# Altium footprint library 3U16AD_PCB_1214D_Allegro.PcbLib: 54 footprints (part 2 of 4)
Each footprint in its own frame and in the unit in brackets; x right, y up, seen from the top. Pads: shape width x height; smd on the part's side, far side on the other; paste and mask are expansions set on the pad; w line width, h text height; cw(c..) or ccw(c..) is an arc to the next point about the centre after c.
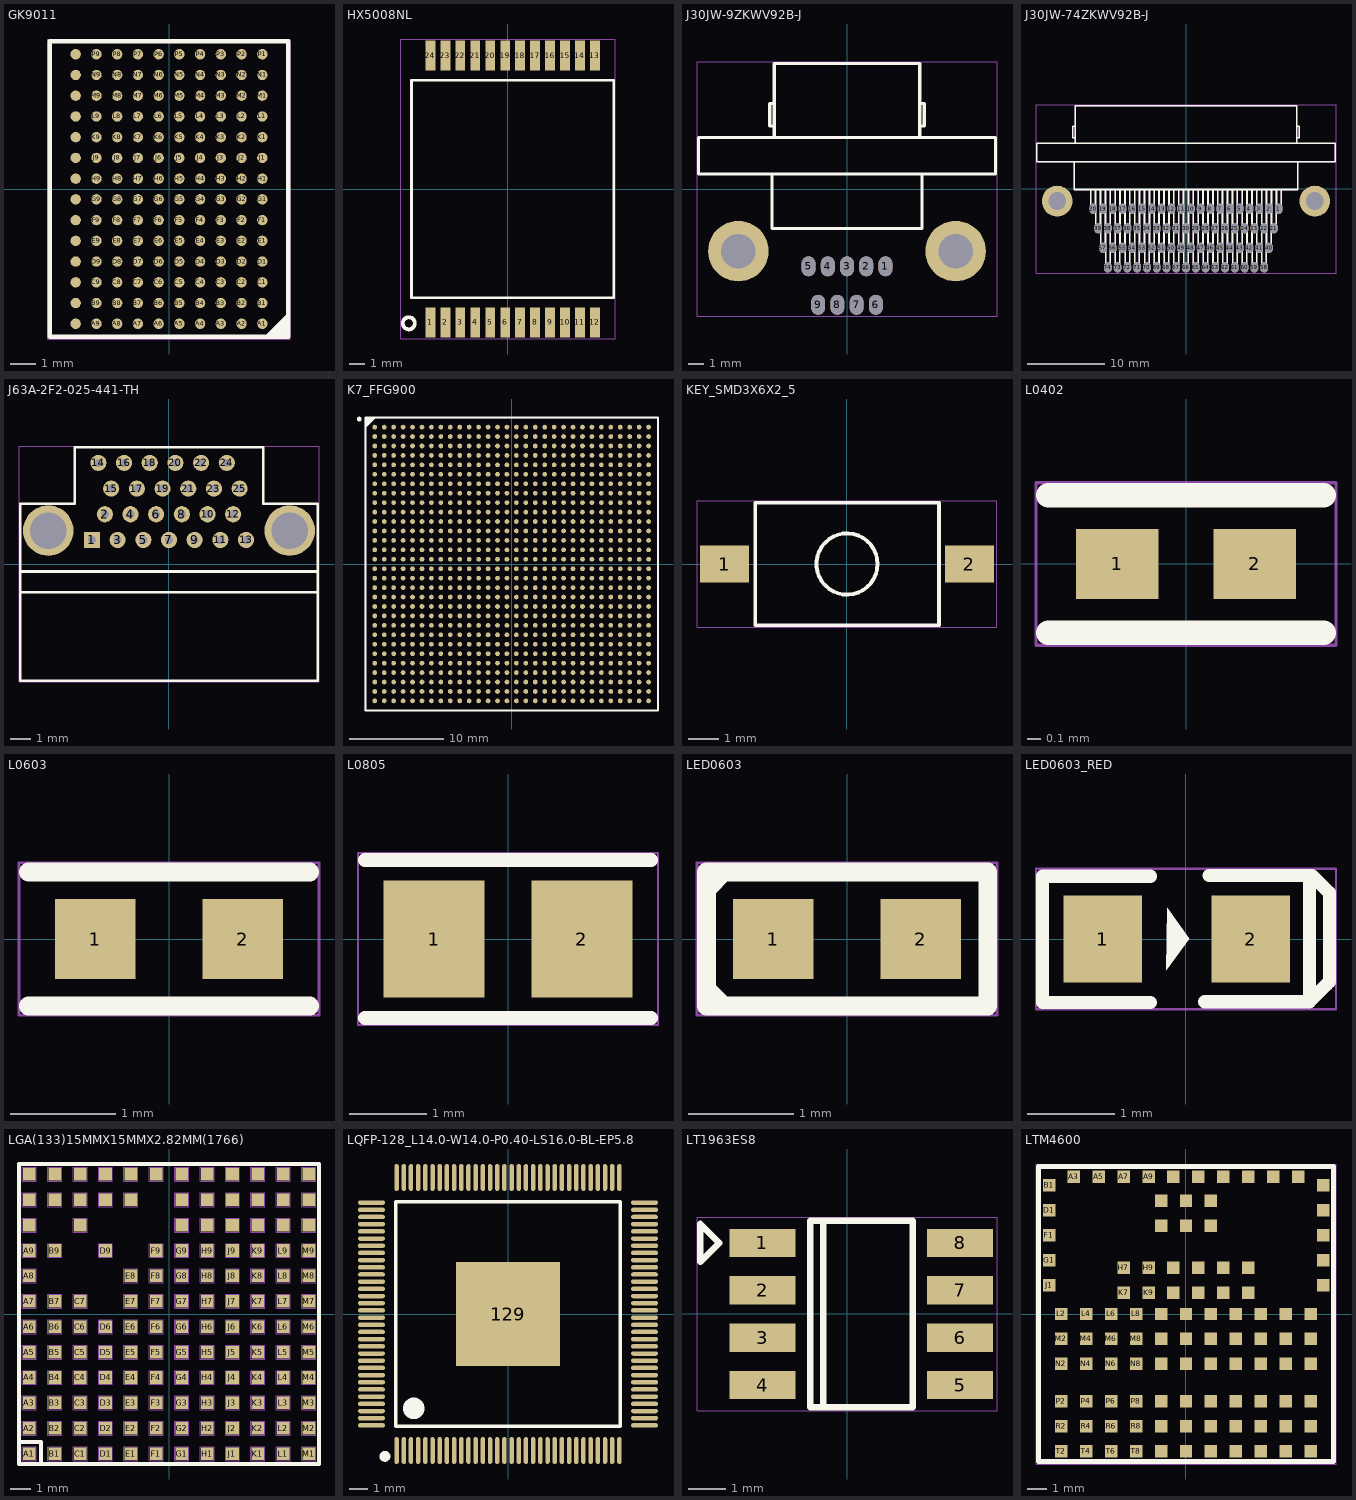
[diagram p1: the footprints below, top view; thin cyan lines are the x and y axes]

## GK9011 [mm] "GK9011"
pads (140):
  round 0.4 smd: A1(3.6,-5.2) A2(2.8,-5.2) A3(2,-5.2) A4(1.2,-5.2) A5(0.4,-5.2) A6(-0.4,-5.2) A7(-1.2,-5.2) A8(-2,-5.2) A9(-2.8,-5.2) A10(-3.6,-5.2) B1(3.6,-4.4) B2(2.8,-4.4) B3(2,-4.4) B4(1.2,-4.4) B5(0.4,-4.4) B6(-0.4,-4.4) B7(-1.2,-4.4) B8(-2,-4.4) B9(-2.8,-4.4) B10(-3.6,-4.4) C1(3.6,-3.6) C2(2.8,-3.6) C3(2,-3.6) C4(1.2,-3.6) C5(0.4,-3.6) C6(-0.4,-3.6) C7(-1.2,-3.6) C8(-2,-3.6) C9(-2.8,-3.6) C10(-3.6,-3.6) D1(3.6,-2.8) D2(2.8,-2.8) D3(2,-2.8) D4(1.2,-2.8) D5(0.4,-2.8) D6(-0.4,-2.8) D7(-1.2,-2.8) D8(-2,-2.8) D9(-2.8,-2.8) D10(-3.6,-2.8) E1(3.6,-2) E2(2.8,-2) E3(2,-2) E4(1.2,-2) E5(0.4,-2) E6(-0.4,-2) E7(-1.2,-2) E8(-2,-2) E9(-2.8,-2) E10(-3.6,-2) F1(3.6,-1.2) F2(2.8,-1.2) F3(2,-1.2) F4(1.2,-1.2) F5(0.4,-1.2) F6(-0.4,-1.2) F7(-1.2,-1.2) F8(-2,-1.2) F9(-2.8,-1.2) F10(-3.6,-1.2) G1(3.6,-0.4) G2(2.8,-0.4) G3(2,-0.4) G4(1.2,-0.4) G5(0.4,-0.4) G6(-0.4,-0.4) G7(-1.2,-0.4) G8(-2,-0.4) G9(-2.8,-0.4) G10(-3.6,-0.4) H1(3.6,0.4) H2(2.8,0.4) H3(2,0.4) H4(1.2,0.4) H5(0.4,0.4) H6(-0.4,0.4) H7(-1.2,0.4) H8(-2,0.4) H9(-2.8,0.4) H10(-3.6,0.4) J1(3.6,1.2) J2(2.8,1.2) J3(2,1.2) J4(1.2,1.2) J5(0.4,1.2) J6(-0.4,1.2) J7(-1.2,1.2) J8(-2,1.2) J9(-2.8,1.2) J10(-3.6,1.2) K1(3.6,2) K2(2.8,2) K3(2,2) K4(1.2,2) K5(0.4,2) K6(-0.4,2) K7(-1.2,2) K8(-2,2) K9(-2.8,2) K10(-3.6,2) L1(3.6,2.8) L2(2.8,2.8) L3(2,2.8) L4(1.2,2.8) L5(0.4,2.8) L6(-0.4,2.8) L7(-1.2,2.8) L8(-2,2.8) L9(-2.8,2.8) L10(-3.6,2.8) M1(3.6,3.6) M2(2.8,3.6) M3(2,3.6) M4(1.2,3.6) M5(0.4,3.6) M6(-0.4,3.6) M7(-1.2,3.6) M8(-2,3.6) M9(-2.8,3.6) M10(-3.6,3.6) N1(3.6,4.4) N2(2.8,4.4) N3(2,4.4) N4(1.2,4.4) N5(0.4,4.4) N6(-0.4,4.4) N7(-1.2,4.4) N8(-2,4.4) N9(-2.8,4.4) N10(-3.6,4.4) P1(3.6,5.2) P2(2.8,5.2) P3(2,5.2) P4(1.2,5.2) P5(0.4,5.2) P6(-0.4,5.2) P7(-1.2,5.2) P8(-2,5.2) P9(-2.8,5.2) P10(-3.6,5.2)
Top Overlay:
  dashed: 3.682,-5.7 4.6,-4.782 4.6,-5.7
  lines w0.178: -4.6,-5.7 4.6,-5.7 4.6,5.7 -4.6,5.7 -4.6,-5.7
Mechanical 7:
  lines w0.025: -4.689,-5.789 4.689,-5.789 4.689,5.789 -4.689,5.789 -4.689,-5.789
Mechanical 16:
  text ".Designator" at 0,0 h0.76

## HX5008NL [mm] "HX5008NL"
pads (24):
  rect 0.65x2 smd: 1(-5.136,-8.828) 2(-4.146,-8.828) 3(-3.156,-8.828) 4(-2.166,-8.828) 5(-1.176,-8.828) 6(-0.186,-8.828) 7(0.804,-8.828) 8(1.794,-8.828) 9(2.784,-8.828) 10(3.774,-8.828) 11(4.764,-8.828) 12(5.754,-8.828) 13(5.754,8.828) 14(4.764,8.828) 15(3.774,8.828) 16(2.784,8.828) 17(1.794,8.828) 18(0.804,8.828) 19(-0.186,8.828) 20(-1.176,8.828) 21(-2.166,8.828) 22(-3.156,8.828) 23(-4.146,8.828) 24(-5.136,8.828)
Top Overlay:
  circle w0.254: c-6.569,-8.89 r0.402
  lines w0.178: -6.391,-7.192 7.009,-7.192 7.009,7.192 -6.391,7.192 -6.391,-7.192
  text ".Designator" at -5.133,-10.965 h0.76
Mechanical 7:
  lines w0.025: -7.098,-9.929 7.098,-9.929 7.098,9.929 -7.098,9.929 -7.098,-9.929

## J30JW-9ZKWV92B-J [mm] "J30JW-9ZKWV92B-J"
pads (11):
  oval 0.9x1.3 hole 0.9 slot 1.3 at 90 deg: 1(2.54,-5.105) 2(1.27,-5.105) 3(0,-5.105) 4(-1.27,-5.105) 5(-2.54,-5.105) 6(1.905,-7.645) 7(0.635,-7.645) 8(-0.635,-7.645) 9(-1.905,-7.645)
  round 4 hole 2.3: ""(-7.175,-4.105) ""(7.175,-4.105)
Top Overlay:
  lines w0.203: -4.95,0.995 -4.95,-2.605 4.95,-2.605 4.95,0.995 ; -4.8,3.395 -4.8,8.295 -4.465,8.295 -2.675,8.295 -0.51,8.295 ; -4.8,4.145 -5.1,4.145 -5.1,4.945 -5.1,5.645 -4.8,5.645 ; -0.635,8.295 2.675,8.295 4.465,8.295 4.8,8.295 4.8,3.395 ; 4.8,4.145 5.1,4.145 5.1,4.945 5.1,5.645 4.8,5.645 ; -9.8,0.995 -8.3,0.995 9.8,0.995 9.8,3.395 8.3,3.395 -9.8,3.395 -9.8,0.995
  text ".Designator" at -0.392,-9.835 h0.76
Mechanical 7:
  lines w0.025: -9.902,-8.396 -9.902,8.397 9.901,8.397 9.901,-8.396 -9.902,-8.396
Mechanical 16:
  lines w0.127: -8.3,0.995 -9.8,0.995 -9.8,3.395 -8.3,3.395 ; -4.95,-2.605 -4.95,0.995 ; -4.8,3.395 -4.8,8.295 -4.465,8.295 -2.675,8.295 -0.51,8.295 ; -4.8,4.145 -5.1,4.145 -5.1,4.945 -5.1,5.645 -4.8,5.645 ; 0.51,8.295 2.675,8.295 4.465,8.295 4.8,8.295 4.8,3.395 ; 4.8,4.145 5.1,4.145 5.1,4.945 5.1,5.645 4.8,5.645 ; 4.95,-2.605 4.95,0.995 ; 8.3,0.995 9.8,0.995 9.8,3.395 8.3,3.395

## J30JW-74ZKWV92B-J [mm] "J30JW-74ZKWV92B-J"
pads (76):
  oval 0.95x1.3 hole 0.95 slot 1.3 at 90 deg: 1(12.065,-2.565) 2(10.795,-2.565) 3(9.525,-2.565) 4(8.255,-2.565) 5(6.985,-2.565) 6(5.715,-2.565) 7(4.445,-2.565) 8(3.175,-2.565) 9(1.905,-2.565) 10(0.635,-2.565) 11(-0.635,-2.565) 12(-1.905,-2.565) 13(-3.175,-2.565) 14(-4.445,-2.565) 15(-5.715,-2.565) 16(-6.985,-2.565) 17(-8.255,-2.565) 18(-9.525,-2.565) 19(-10.795,-2.565) 20(-12.065,-2.565) 21(11.43,-5.105) 22(10.16,-5.105) 23(8.89,-5.105) 24(7.62,-5.105) 25(6.35,-5.105) 26(5.08,-5.105) 27(3.81,-5.105) 28(2.54,-5.105) 29(1.27,-5.105) 30(0,-5.105) 31(-1.27,-5.105) 32(-2.54,-5.105) 33(-3.81,-5.105) 34(-5.08,-5.105) 35(-6.35,-5.105) 36(-7.62,-5.105) 37(-8.89,-5.105) 38(-10.16,-5.105) 39(-11.43,-5.105) 40(10.795,-7.645) 41(9.525,-7.645) 42(8.255,-7.645) 43(6.985,-7.645) 44(5.715,-7.645) 45(4.445,-7.645) 46(3.175,-7.645) 47(1.905,-7.645) 48(0.635,-7.645) 49(-0.635,-7.645) 50(-1.905,-7.645) 51(-3.175,-7.645) 52(-4.445,-7.645) 53(-5.715,-7.645) 54(-6.985,-7.645) 55(-8.255,-7.645) 56(-9.525,-7.645) 57(-10.795,-7.645) 58(10.16,-10.185) 59(8.89,-10.185) 60(7.62,-10.185) 61(6.35,-10.185) 62(5.08,-10.185) 63(3.81,-10.185) 64(2.54,-10.185) 65(1.27,-10.185) 66(0,-10.185) 67(-1.27,-10.185) 68(-2.54,-10.185) 69(-3.81,-10.185) 70(-5.08,-10.185) 71(-6.35,-10.185) 72(-7.62,-10.185) 73(-8.89,-10.185) 74(-10.16,-10.185)
  round 4 hole 2.3: ""(-16.75,-1.565) ""(16.75,-1.565)
Top Overlay:
  drawing of 232 lines, arcs and shapes, not listed
Mechanical 7:
  lines w0.025: -19.502,-10.937 -19.502,10.936 19.502,10.936 19.502,-10.937 -19.502,-10.937
Mechanical 16:
  drawing of 232 lines, arcs and shapes, not listed
  text ".Designator" at 0,-5.875 h0.76

## J63A-2F2-025-441-TH [mil] "J63A-2F2-025-441-TH"
pads (27):
  rect 31.5x31.5 hole 15.75: 1(-150,46.86)
  round 31.5 hole 15.75: 2(-125,96.86) 3(-100,46.86) 4(-75,96.86) 5(-50,46.86) 6(-25,96.86) 7(0,46.86) 8(25,96.86) 9(50,46.86) 10(75,96.86) 11(100,46.86) 12(125,96.86) 13(150,46.86) 14(-137.5,196.86) 15(-112.5,146.86) 16(-87.5,196.86) 17(-62.5,146.86) 18(-37.5,196.86) 19(-12.5,146.86) 20(12.5,196.86) 21(37.5,146.86) 22(62.5,196.86) 23(87.5,146.86) 24(112.5,196.86) 25(137.5,146.86)
  round 98.43 hole 70.87: ""(-235.04,64.97) ""(235.04,64.97)
Top Overlay:
  lines w5: -289.56,-55.11 289.57,-55.11 ; -289.56,-14.66 289.57,-14.66 ; -289.56,-227.16 -289.56,116.93 -183.66,116.93 -183.66,227.17 183.67,227.17 183.67,116.93 289.57,116.93 289.57,-227.16 -289.56,-227.16
  text ".Designator" at -224,133.86 h30
Mechanical 7:
  lines w1: -292.06,-229.66 -292.06,229.67 292.07,229.67 292.07,-229.66 -292.06,-229.66

## K7_FFG900 [mil] "K7_FFG900"
pads (900):
  round 19.68 smd: A1(-570.86,570.87) A2(-531.49,570.87) A3(-492.12,570.87) A4(-452.75,570.87) A5(-413.38,570.87) A6(-374.01,570.87) A7(-334.64,570.87) A8(-295.27,570.87) A9(-255.9,570.87) A10(-216.53,570.87) A11(-177.16,570.87) A12(-137.79,570.87) A13(-98.42,570.87) A14(-59.05,570.87) A15(-19.68,570.87) A16(19.69,570.87) A17(59.06,570.87) A18(98.43,570.87) A19(137.8,570.87) A20(177.17,570.87) A21(216.54,570.87) A22(255.91,570.87) A23(295.28,570.87) A24(334.65,570.87) A25(374.02,570.87) A26(413.39,570.87) A27(452.76,570.87) A28(492.13,570.87) A29(531.5,570.87) A30(570.87,570.87) AA1(-570.86,-216.53) AA2(-531.49,-216.53) AA3(-492.12,-216.53) AA4(-452.75,-216.53) AA5(-413.38,-216.53) AA6(-374.01,-216.53) AA7(-334.64,-216.53) AA8(-295.27,-216.53) AA9(-255.9,-216.53) AA10(-216.53,-216.53) AA11(-177.16,-216.53) AA12(-137.79,-216.53) AA13(-98.42,-216.53) AA14(-59.05,-216.53) AA15(-19.68,-216.53) AA16(19.69,-216.53) AA17(59.06,-216.53) AA18(98.43,-216.53) AA19(137.8,-216.53) AA20(177.17,-216.53) AA21(216.54,-216.53) AA22(255.91,-216.53) AA23(295.28,-216.53) AA24(334.65,-216.53) AA25(374.02,-216.53) AA26(413.39,-216.53) AA27(452.76,-216.53) AA28(492.13,-216.53) AA29(531.5,-216.53) AA30(570.87,-216.53) AB1(-570.86,-255.9) AB2(-531.49,-255.9) AB3(-492.12,-255.9) AB4(-452.75,-255.9) AB5(-413.38,-255.9) AB6(-374.01,-255.9) AB7(-334.64,-255.9) AB8(-295.27,-255.9) AB9(-255.9,-255.9) AB10(-216.53,-255.9) AB11(-177.16,-255.9) AB12(-137.79,-255.9) AB13(-98.42,-255.9) AB14(-59.05,-255.9) AB15(-19.68,-255.9) AB16(19.69,-255.9) AB17(59.06,-255.9) AB18(98.43,-255.9) AB19(137.8,-255.9) AB20(177.17,-255.9) AB21(216.54,-255.9) AB22(255.91,-255.9) AB23(295.28,-255.9) AB24(334.65,-255.9) AB25(374.02,-255.9) AB26(413.39,-255.9) AB27(452.76,-255.9) AB28(492.13,-255.9) AB29(531.5,-255.9) AB30(570.87,-255.9) AC1(-570.86,-295.27) AC2(-531.49,-295.27) AC3(-492.12,-295.27) AC4(-452.75,-295.27) AC5(-413.38,-295.27) AC6(-374.01,-295.27) AC7(-334.64,-295.27) AC8(-295.27,-295.27) AC9(-255.9,-295.27) AC10(-216.53,-295.27) AC11(-177.16,-295.27) AC12(-137.79,-295.27) AC13(-98.42,-295.27) AC14(-59.05,-295.27) AC15(-19.68,-295.27) AC16(19.69,-295.27) AC17(59.06,-295.27) AC18(98.43,-295.27) AC19(137.8,-295.27) AC20(177.17,-295.27) AC21(216.54,-295.27) AC22(255.91,-295.27) AC23(295.28,-295.27) AC24(334.65,-295.27) AC25(374.02,-295.27) AC26(413.39,-295.27) AC27(452.76,-295.27) AC28(492.13,-295.27) AC29(531.5,-295.27) AC30(570.87,-295.27) AD1(-570.86,-334.64) AD2(-531.49,-334.64) AD3(-492.12,-334.64) AD4(-452.75,-334.64) AD5(-413.38,-334.64) AD6(-374.01,-334.64) AD7(-334.64,-334.64) AD8(-295.27,-334.64) AD9(-255.9,-334.64) AD10(-216.53,-334.64) AD11(-177.16,-334.64) AD12(-137.79,-334.64) AD13(-98.42,-334.64) AD14(-59.05,-334.64) AD15(-19.68,-334.64) AD16(19.69,-334.64) AD17(59.06,-334.64) AD18(98.43,-334.64) AD19(137.8,-334.64) AD20(177.17,-334.64) AD21(216.54,-334.64) AD22(255.91,-334.64) AD23(295.28,-334.64) AD24(334.65,-334.64) AD25(374.02,-334.64) AD26(413.39,-334.64) AD27(452.76,-334.64) AD28(492.13,-334.64) AD29(531.5,-334.64) AD30(570.87,-334.64) AE1(-570.86,-374.01) AE2(-531.49,-374.01) AE3(-492.12,-374.01) AE4(-452.75,-374.01) AE5(-413.38,-374.01) AE6(-374.01,-374.01) AE7(-334.64,-374.01) AE8(-295.27,-374.01) AE9(-255.9,-374.01) AE10(-216.53,-374.01) AE11(-177.16,-374.01) AE12(-137.79,-374.01) AE13(-98.42,-374.01) AE14(-59.05,-374.01) AE15(-19.68,-374.01) AE16(19.69,-374.01) AE17(59.06,-374.01) AE18(98.43,-374.01) AE19(137.8,-374.01) AE20(177.17,-374.01) AE21(216.54,-374.01) AE22(255.91,-374.01) AE23(295.28,-374.01) AE24(334.65,-374.01) AE25(374.02,-374.01) AE26(413.39,-374.01) AE27(452.76,-374.01) AE28(492.13,-374.01) AE29(531.5,-374.01) AE30(570.87,-374.01) AF1(-570.86,-413.38) AF2(-531.49,-413.38) AF3(-492.12,-413.38) AF4(-452.75,-413.38) AF5(-413.38,-413.38) AF6(-374.01,-413.38) AF7(-334.64,-413.38) AF8(-295.27,-413.38) AF9(-255.9,-413.38) AF10(-216.53,-413.38) AF11(-177.16,-413.38) AF12(-137.79,-413.38) AF13(-98.42,-413.38) AF14(-59.05,-413.38) AF15(-19.68,-413.38) AF16(19.69,-413.38) AF17(59.06,-413.38) AF18(98.43,-413.38) AF19(137.8,-413.38) AF20(177.17,-413.38) AF21(216.54,-413.38) AF22(255.91,-413.38) AF23(295.28,-413.38) AF24(334.65,-413.38) AF25(374.02,-413.38) AF26(413.39,-413.38) AF27(452.76,-413.38) AF28(492.13,-413.38) AF29(531.5,-413.38) AF30(570.87,-413.38) AG1(-570.86,-452.75) AG2(-531.49,-452.75) AG3(-492.12,-452.75) AG4(-452.75,-452.75) AG5(-413.38,-452.75) AG6(-374.01,-452.75) AG7(-334.64,-452.75) AG8(-295.27,-452.75) AG9(-255.9,-452.75) AG10(-216.53,-452.75) AG11(-177.16,-452.75) AG12(-137.79,-452.75) AG13(-98.42,-452.75) AG14(-59.05,-452.75) AG15(-19.68,-452.75) AG16(19.69,-452.75) AG17(59.06,-452.75) AG18(98.43,-452.75) AG19(137.8,-452.75) AG20(177.17,-452.75) AG21(216.54,-452.75) AG22(255.91,-452.75) AG23(295.28,-452.75) AG24(334.65,-452.75) AG25(374.02,-452.75) AG26(413.39,-452.75) AG27(452.76,-452.75) AG28(492.13,-452.75) AG29(531.5,-452.75) AG30(570.87,-452.75) AH1(-570.86,-492.12) AH2(-531.49,-492.12) AH3(-492.12,-492.12) AH4(-452.75,-492.12) AH5(-413.38,-492.12) AH6(-374.01,-492.12) AH7(-334.64,-492.12) AH8(-295.27,-492.12) AH9(-255.9,-492.12) AH10(-216.53,-492.12) AH11(-177.16,-492.12) AH12(-137.79,-492.12) AH13(-98.42,-492.12) AH14(-59.05,-492.12) AH15(-19.68,-492.12) AH16(19.69,-492.12) AH17(59.06,-492.12) AH18(98.43,-492.12) AH19(137.8,-492.12) AH20(177.17,-492.12) AH21(216.54,-492.12) AH22(255.91,-492.12) AH23(295.28,-492.12) AH24(334.65,-492.12) AH25(374.02,-492.12) AH26(413.39,-492.12) AH27(452.76,-492.12) AH28(492.13,-492.12) AH29(531.5,-492.12) AH30(570.87,-492.12) AJ1(-570.86,-531.49) AJ2(-531.49,-531.49) AJ3(-492.12,-531.49) AJ4(-452.75,-531.49) AJ5(-413.38,-531.49) AJ6(-374.01,-531.49) AJ7(-334.64,-531.49) AJ8(-295.27,-531.49) AJ9(-255.9,-531.49) AJ10(-216.53,-531.49) AJ11(-177.16,-531.49) AJ12(-137.79,-531.49) AJ13(-98.42,-531.49) AJ14(-59.05,-531.49) AJ15(-19.68,-531.49) AJ16(19.69,-531.49) AJ17(59.06,-531.49) AJ18(98.43,-531.49) AJ19(137.8,-531.49) AJ20(177.17,-531.49) AJ21(216.54,-531.49) AJ22(255.91,-531.49) AJ23(295.28,-531.49) AJ24(334.65,-531.49) AJ25(374.02,-531.49) AJ26(413.39,-531.49) AJ27(452.76,-531.49) AJ28(492.13,-531.49) AJ29(531.5,-531.49) AJ30(570.87,-531.49) AK1(-570.86,-570.86) AK2(-531.49,-570.86) AK3(-492.12,-570.86) AK4(-452.75,-570.86) AK5(-413.38,-570.86) AK6(-374.01,-570.86) AK7(-334.64,-570.86) AK8(-295.27,-570.86) AK9(-255.9,-570.86) AK10(-216.53,-570.86) AK11(-177.16,-570.86) AK12(-137.79,-570.86) AK13(-98.42,-570.86) AK14(-59.05,-570.86) AK15(-19.68,-570.86) AK16(19.69,-570.86) AK17(59.06,-570.86) AK18(98.43,-570.86) AK19(137.8,-570.86) AK20(177.17,-570.86) AK21(216.54,-570.86) AK22(255.91,-570.86) AK23(295.28,-570.86) AK24(334.65,-570.86) AK25(374.02,-570.86) AK26(413.39,-570.86) AK27(452.76,-570.86) AK28(492.13,-570.86) AK29(531.5,-570.86) AK30(570.87,-570.86) B1(-570.86,531.5) B2(-531.49,531.5) B3(-492.12,531.5) B4(-452.75,531.5) B5(-413.38,531.5) B6(-374.01,531.5) B7(-334.64,531.5) B8(-295.27,531.5) B9(-255.9,531.5) B10(-216.53,531.5) B11(-177.16,531.5) B12(-137.79,531.5) B13(-98.42,531.5) B14(-59.05,531.5) B15(-19.68,531.5) B16(19.69,531.5) B17(59.06,531.5) B18(98.43,531.5) B19(137.8,531.5) B20(177.17,531.5) B21(216.54,531.5) B22(255.91,531.5) B23(295.28,531.5) B24(334.65,531.5) B25(374.02,531.5) B26(413.39,531.5) B27(452.76,531.5) B28(492.13,531.5) B29(531.5,531.5) B30(570.87,531.5) C1(-570.86,492.13) C2(-531.49,492.13) C3(-492.12,492.13) C4(-452.75,492.13) C5(-413.38,492.13) C6(-374.01,492.13) C7(-334.64,492.13) C8(-295.27,492.13) C9(-255.9,492.13) C10(-216.53,492.13) C11(-177.16,492.13) C12(-137.79,492.13) C13(-98.42,492.13) C14(-59.05,492.13) C15(-19.68,492.13) C16(19.69,492.13) C17(59.06,492.13) C18(98.43,492.13) C19(137.8,492.13) C20(177.17,492.13) C21(216.54,492.13) C22(255.91,492.13) C23(295.28,492.13) C24(334.65,492.13) C25(374.02,492.13) C26(413.39,492.13) C27(452.76,492.13) C28(492.13,492.13) C29(531.5,492.13) C30(570.87,492.13) D1(-570.86,452.76) D2(-531.49,452.76) D3(-492.12,452.76) D4(-452.75,452.76) D5(-413.38,452.76) D6(-374.01,452.76) D7(-334.64,452.76) D8(-295.27,452.76) D9(-255.9,452.76) D10(-216.53,452.76) D11(-177.16,452.76) D12(-137.79,452.76) D13(-98.42,452.76) D14(-59.05,452.76) D15(-19.68,452.76) D16(19.69,452.76) D17(59.06,452.76) D18(98.43,452.76) D19(137.8,452.76) D20(177.17,452.76) D21(216.54,452.76) D22(255.91,452.76) D23(295.28,452.76) D24(334.65,452.76) D25(374.02,452.76) D26(413.39,452.76) D27(452.76,452.76) D28(492.13,452.76) D29(531.5,452.76) D30(570.87,452.76) E1(-570.86,413.39) E2(-531.49,413.39) E3(-492.12,413.39) E4(-452.75,413.39) E5(-413.38,413.39) E6(-374.01,413.39) E7(-334.64,413.39) E8(-295.27,413.39) E9(-255.9,413.39) E10(-216.53,413.39) E11(-177.16,413.39) E12(-137.79,413.39) E13(-98.42,413.39) E14(-59.05,413.39) E15(-19.68,413.39) E16(19.69,413.39) E17(59.06,413.39) E18(98.43,413.39) E19(137.8,413.39) E20(177.17,413.39) E21(216.54,413.39) E22(255.91,413.39) E23(295.28,413.39) E24(334.65,413.39) E25(374.02,413.39) E26(413.39,413.39) E27(452.76,413.39) E28(492.13,413.39) E29(531.5,413.39) E30(570.87,413.39) F1(-570.86,374.02) F2(-531.49,374.02) F3(-492.12,374.02) F4(-452.75,374.02) F5(-413.38,374.02) F6(-374.01,374.02) F7(-334.64,374.02) F8(-295.27,374.02) F9(-255.9,374.02) F10(-216.53,374.02) F11(-177.16,374.02) F12(-137.79,374.02) F13(-98.42,374.02) F14(-59.05,374.02) F15(-19.68,374.02) F16(19.69,374.02) F17(59.06,374.02) F18(98.43,374.02) F19(137.8,374.02) F20(177.17,374.02) F21(216.54,374.02) F22(255.91,374.02) F23(295.28,374.02) F24(334.65,374.02) F25(374.02,374.02) F26(413.39,374.02) F27(452.76,374.02) F28(492.13,374.02) F29(531.5,374.02) F30(570.87,374.02) G1(-570.86,334.65) G2(-531.49,334.65) G3(-492.12,334.65) G4(-452.75,334.65) G5(-413.38,334.65) G6(-374.01,334.65) G7(-334.64,334.65) G8(-295.27,334.65) G9(-255.9,334.65) G10(-216.53,334.65) G11(-177.16,334.65) G12(-137.79,334.65) G13(-98.42,334.65) G14(-59.05,334.65) G15(-19.68,334.65) G16(19.69,334.65) G17(59.06,334.65) G18(98.43,334.65) G19(137.8,334.65) G20(177.17,334.65) G21(216.54,334.65) G22(255.91,334.65) G23(295.28,334.65) G24(334.65,334.65) G25(374.02,334.65) G26(413.39,334.65) G27(452.76,334.65) G28(492.13,334.65) G29(531.5,334.65) G30(570.87,334.65) H1(-570.86,295.28) H2(-531.49,295.28) H3(-492.12,295.28) H4(-452.75,295.28) H5(-413.38,295.28) H6(-374.01,295.28) H7(-334.64,295.28) H8(-295.27,295.28) H9(-255.9,295.28) H10(-216.53,295.28) H11(-177.16,295.28) H12(-137.79,295.28) H13(-98.42,295.28) H14(-59.05,295.28) H15(-19.68,295.28) H16(19.69,295.28) H17(59.06,295.28) H18(98.43,295.28) H19(137.8,295.28) H20(177.17,295.28) H21(216.54,295.28) H22(255.91,295.28) H23(295.28,295.28) H24(334.65,295.28) H25(374.02,295.28) H26(413.39,295.28) H27(452.76,295.28) H28(492.13,295.28) H29(531.5,295.28) H30(570.87,295.28) J1(-570.86,255.91) J2(-531.49,255.91) J3(-492.12,255.91) J4(-452.75,255.91) J5(-413.38,255.91) J6(-374.01,255.91) J7(-334.64,255.91) J8(-295.27,255.91) J9(-255.9,255.91) J10(-216.53,255.91) J11(-177.16,255.91) J12(-137.79,255.91) J13(-98.42,255.91) J14(-59.05,255.91) J15(-19.68,255.91) J16(19.69,255.91) J17(59.06,255.91) J18(98.43,255.91) J19(137.8,255.91) J20(177.17,255.91) J21(216.54,255.91) J22(255.91,255.91) J23(295.28,255.91) J24(334.65,255.91) J25(374.02,255.91) J26(413.39,255.91) J27(452.76,255.91) J28(492.13,255.91) J29(531.5,255.91) J30(570.87,255.91) K1(-570.86,216.54) K2(-531.49,216.54) K3(-492.12,216.54) K4(-452.75,216.54) K5(-413.38,216.54) K6(-374.01,216.54) K7(-334.64,216.54) K8(-295.27,216.54) K9(-255.9,216.54) K10(-216.53,216.54) K11(-177.16,216.54) K12(-137.79,216.54) K13(-98.42,216.54) K14(-59.05,216.54) K15(-19.68,216.54) K16(19.69,216.54) K17(59.06,216.54) K18(98.43,216.54) K19(137.8,216.54) K20(177.17,216.54) K21(216.54,216.54) K22(255.91,216.54) K23(295.28,216.54) K24(334.65,216.54) K25(374.02,216.54) K26(413.39,216.54) K27(452.76,216.54) K28(492.13,216.54) K29(531.5,216.54) K30(570.87,216.54) L1(-570.86,177.17) L2(-531.49,177.17) L3(-492.12,177.17) L4(-452.75,177.17) L5(-413.38,177.17) L6(-374.01,177.17) L7(-334.64,177.17) L8(-295.27,177.17) L9(-255.9,177.17) L10(-216.53,177.17) L11(-177.16,177.17) L12(-137.79,177.17) L13(-98.42,177.17) L14(-59.05,177.17) L15(-19.68,177.17) L16(19.69,177.17) L17(59.06,177.17) L18(98.43,177.17) L19(137.8,177.17) L20(177.17,177.17) L21(216.54,177.17) L22(255.91,177.17) L23(295.28,177.17) L24(334.65,177.17) L25(374.02,177.17) L26(413.39,177.17) L27(452.76,177.17) L28(492.13,177.17) L29(531.5,177.17) L30(570.87,177.17) M1(-570.86,137.8) M2(-531.49,137.8) M3(-492.12,137.8) M4(-452.75,137.8) M5(-413.38,137.8) M6(-374.01,137.8) M7(-334.64,137.8) M8(-295.27,137.8) M9(-255.9,137.8) M10(-216.53,137.8) M11(-177.16,137.8) M12(-137.79,137.8) M13(-98.42,137.8) M14(-59.05,137.8) M15(-19.68,137.8) M16(19.69,137.8) M17(59.06,137.8) M18(98.43,137.8) M19(137.8,137.8) M20(177.17,137.8) M21(216.54,137.8) M22(255.91,137.8) M23(295.28,137.8) M24(334.65,137.8) M25(374.02,137.8) M26(413.39,137.8) M27(452.76,137.8) M28(492.13,137.8) M29(531.5,137.8) M30(570.87,137.8) N1(-570.86,98.43) N2(-531.49,98.43) N3(-492.12,98.43) N4(-452.75,98.43) N5(-413.38,98.43) N6(-374.01,98.43) N7(-334.64,98.43) N8(-295.27,98.43) N9(-255.9,98.43) N10(-216.53,98.43) N11(-177.16,98.43) N12(-137.79,98.43) N13(-98.42,98.43) N14(-59.05,98.43) N15(-19.68,98.43) N16(19.69,98.43) N17(59.06,98.43) N18(98.43,98.43) N19(137.8,98.43) N20(177.17,98.43) N21(216.54,98.43) N22(255.91,98.43) N23(295.28,98.43) N24(334.65,98.43) N25(374.02,98.43) N26(413.39,98.43) N27(452.76,98.43) N28(492.13,98.43) N29(531.5,98.43) N30(570.87,98.43) P1(-570.86,59.06) P2(-531.49,59.06) P3(-492.12,59.06) P4(-452.75,59.06) P5(-413.38,59.06) P6(-374.01,59.06) P7(-334.64,59.06) P8(-295.27,59.06) P9(-255.9,59.06) P10(-216.53,59.06) P11(-177.16,59.06) P12(-137.79,59.06) P13(-98.42,59.06) P14(-59.05,59.06) P15(-19.68,59.06) P16(19.69,59.06) P17(59.06,59.06) P18(98.43,59.06) P19(137.8,59.06) P20(177.17,59.06) P21(216.54,59.06) P22(255.91,59.06) P23(295.28,59.06) P24(334.65,59.06) P25(374.02,59.06) P26(413.39,59.06) P27(452.76,59.06) P28(492.13,59.06) P29(531.5,59.06) P30(570.87,59.06) R1(-570.86,19.69) R2(-531.49,19.69) R3(-492.12,19.69) R4(-452.75,19.69) R5(-413.38,19.69) R6(-374.01,19.69) R7(-334.64,19.69) R8(-295.27,19.69) R9(-255.9,19.69) R10(-216.53,19.69) R11(-177.16,19.69) R12(-137.79,19.69) R13(-98.42,19.69) R14(-59.05,19.69) R15(-19.68,19.69) R16(19.69,19.69) R17(59.06,19.69) R18(98.43,19.69) R19(137.8,19.69) R20(177.17,19.69) R21(216.54,19.69) R22(255.91,19.69) R23(295.28,19.69) R24(334.65,19.69) R25(374.02,19.69) R26(413.39,19.69) R27(452.76,19.69) R28(492.13,19.69) R29(531.5,19.69) R30(570.87,19.69) T1(-570.86,-19.68) T2(-531.49,-19.68) T3(-492.12,-19.68) T4(-452.75,-19.68) T5(-413.38,-19.68) T6(-374.01,-19.68) T7(-334.64,-19.68) T8(-295.27,-19.68) T9(-255.9,-19.68) T10(-216.53,-19.68) T11(-177.16,-19.68) T12(-137.79,-19.68) T13(-98.42,-19.68) T14(-59.05,-19.68) T15(-19.68,-19.68) T16(19.69,-19.68) T17(59.06,-19.68) T18(98.43,-19.68) T19(137.8,-19.68) T20(177.17,-19.68) T21(216.54,-19.68) T22(255.91,-19.68) T23(295.28,-19.68) T24(334.65,-19.68) T25(374.02,-19.68) T26(413.39,-19.68) T27(452.76,-19.68) T28(492.13,-19.68) T29(531.5,-19.68) T30(570.87,-19.68) U1(-570.86,-59.05) U2(-531.49,-59.05) U3(-492.12,-59.05) U4(-452.75,-59.05) U5(-413.38,-59.05) U6(-374.01,-59.05) U7(-334.64,-59.05) U8(-295.27,-59.05) U9(-255.9,-59.05) U10(-216.53,-59.05) U11(-177.16,-59.05) U12(-137.79,-59.05) U13(-98.42,-59.05) U14(-59.05,-59.05) U15(-19.68,-59.05) U16(19.69,-59.05) U17(59.06,-59.05) U18(98.43,-59.05) U19(137.8,-59.05) U20(177.17,-59.05) U21(216.54,-59.05) U22(255.91,-59.05) U23(295.28,-59.05) U24(334.65,-59.05) U25(374.02,-59.05) U26(413.39,-59.05) U27(452.76,-59.05) U28(492.13,-59.05) U29(531.5,-59.05) U30(570.87,-59.05) V1(-570.86,-98.42) V2(-531.49,-98.42) V3(-492.12,-98.42) V4(-452.75,-98.42) V5(-413.38,-98.42) V6(-374.01,-98.42) V7(-334.64,-98.42) V8(-295.27,-98.42) V9(-255.9,-98.42) V10(-216.53,-98.42) V11(-177.16,-98.42) V12(-137.79,-98.42) V13(-98.42,-98.42) V14(-59.05,-98.42) V15(-19.68,-98.42) V16(19.69,-98.42) V17(59.06,-98.42) V18(98.43,-98.42) V19(137.8,-98.42) V20(177.17,-98.42) V21(216.54,-98.42) V22(255.91,-98.42) V23(295.28,-98.42) V24(334.65,-98.42) V25(374.02,-98.42) V26(413.39,-98.42) V27(452.76,-98.42) V28(492.13,-98.42) V29(531.5,-98.42) V30(570.87,-98.42) W1(-570.86,-137.79) W2(-531.49,-137.79) W3(-492.12,-137.79) W4(-452.75,-137.79) W5(-413.38,-137.79) W6(-374.01,-137.79) W7(-334.64,-137.79) W8(-295.27,-137.79) W9(-255.9,-137.79) W10(-216.53,-137.79) W11(-177.16,-137.79) W12(-137.79,-137.79) W13(-98.42,-137.79) W14(-59.05,-137.79) W15(-19.68,-137.79) W16(19.69,-137.79) W17(59.06,-137.79) W18(98.43,-137.79) W19(137.8,-137.79) W20(177.17,-137.79) W21(216.54,-137.79) W22(255.91,-137.79) W23(295.28,-137.79) W24(334.65,-137.79) W25(374.02,-137.79) W26(413.39,-137.79) W27(452.76,-137.79) W28(492.13,-137.79) W29(531.5,-137.79) W30(570.87,-137.79) Y1(-570.86,-177.16) Y2(-531.49,-177.16) Y3(-492.12,-177.16) Y4(-452.75,-177.16) Y5(-413.38,-177.16) Y6(-374.01,-177.16) Y7(-334.64,-177.16) Y8(-295.27,-177.16) Y9(-255.9,-177.16) Y10(-216.53,-177.16) Y11(-177.16,-177.16) Y12(-137.79,-177.16) Y13(-98.42,-177.16) Y14(-59.05,-177.16) Y15(-19.68,-177.16) Y16(19.69,-177.16) Y17(59.06,-177.16) Y18(98.43,-177.16) Y19(137.8,-177.16) Y20(177.17,-177.16) Y21(216.54,-177.16) Y22(255.91,-177.16) Y23(295.28,-177.16) Y24(334.65,-177.16) Y25(374.02,-177.16) Y26(413.39,-177.16) Y27(452.76,-177.16) Y28(492.13,-177.16) Y29(531.5,-177.16) Y30(570.87,-177.16)
Top Overlay:
  circle w9.84: c-635.82,604.33 r4.92
  dashed: -570.86,610.24 -610.23,570.87 -610.23,610.24
  lines w7.87: -610.23,570.87 -570.86,610.24 ; -610.23,-610.23 610.24,-610.23 610.24,610.24 -610.23,610.24 -610.23,-610.23
  text ".Designator" at 656,191 h30
Mechanical 7:
  lines w1: -610.23,-610.23 610.24,-610.23 610.24,610.24 -610.23,610.24 -610.23,-610.23

## KEY_SMD3X6X2_5 [mm] "KEY_SMD3X6X2_5"
pads (2):
  rect 1.6x1.2 smd: 1(-4,0) 2(4,0)
Top Overlay:
  circle w0.127: c0,0 r1
  lines w0.127: -3,-2 -3,2 3,2 3,-1.996 3.004,-2 -3,-2
  text ".Designator" at -6.043,-2.095 h0.76
Mechanical 7:
  lines w0.025: -4.901,-2.063 4.902,-2.063 4.902,2.063 -4.901,2.063 -4.901,-2.063

## L0402 [mil] "L0402"
pads (2):
  rect 23.62x20 smd: 1(-19.69,0) 2(19.68,0)
Top Overlay:
  lines w7: -39.37,-19.69 39.37,-19.69 ; -39.37,19.68 39.37,19.68
Mechanical 7:
  lines w1: -42.87,-23.19 42.87,-23.19 42.87,23.18 -42.87,23.18 -42.87,-23.19
Mechanical 16:
  text ".Designator" at 0,0 h30

## L0603 [mil] "L0603"
pads (2):
  rect 30x30 smd: 1(-27.5,0) 2(27.5,0)
Top Overlay:
  lines w7: -52.5,-25 52.5,-25 ; -52.5,25 52.5,25
  text ".Designator" at -2,98 h30
Mechanical 7:
  lines w1: -56,-28.5 56,-28.5 56,28.5 -56,28.5 -56,-28.5

## L0805 [mm] "L0805"
pads (2):
  rect 1.3x1.5 smd: 1(-0.95,0) 2(0.95,0)
Top Overlay:
  lines w0.178: -1.841,-1.019 1.841,-1.019 ; -1.841,1.019 1.841,1.019
  text ".Designator" at 3.404,1.511 h0.76
Mechanical 7:
  lines w0.025: -1.93,-1.107 1.93,-1.107 1.93,1.107 -1.93,1.107 -1.93,-1.107

## LED0603 [mil] "LED0603"
pads (2):
  rect 30x30 smd: 1(-27.5,0) 2(27.5,0)
Top Overlay:
  lines w7: -52.5,-18.5 -46.49,-24.51 ; -52,18.99 -46,25 ; -52.5,-25 -52.5,25 52.5,25 52.5,-25 -52.5,-25
Mechanical 7:
  lines w1: -56,-28.5 56,-28.5 56,28.5 -56,28.5 -56,-28.5
Mechanical 16:
  text ".Designator" at 0,0 h30

## LED0603_RED [mm] "LED0603_RED"
pads (2):
  rect 0.9x1 smd: 1(-0.955,0) 2(0.745,0)
Top Overlay:
  dashed: -0.215,0.36 -0.225,-0.36 0.035,0
  lines w0.15: -0.405,-0.73 -1.645,-0.73 -1.645,0.72 -0.405,0.72 ; 0.215,-0.72 1.415,-0.72 ; 0.265,0.73 1.415,0.73 ; 1.415,-0.72 1.615,-0.52 1.645,-0.49 1.645,0.53 1.445,0.73 1.415,0.73 ; 1.415,-0.72 1.415,0.73
Mechanical 7:
  lines w0.025: -1.72,-0.805 -1.72,0.805 1.72,0.805 1.72,-0.805 -1.72,-0.805
Mechanical 16:
  text ".Designator" at -0.105,0 h0.76

## LGA(133)15MMX15MMX2.82MM(1766) [mm]
pads (133):
  rect 0.63x0.63 smd: A1(-6.985,-6.985) A2(-6.985,-5.715) A3(-6.985,-4.445) A4(-6.985,-3.175) A5(-6.985,-1.905) A6(-6.985,-0.635) A7(-6.985,0.635) A8(-6.985,1.905) A9(-6.985,3.175) A10(-6.985,4.445) A11(-6.985,5.715) A12(-6.985,6.985) B1(-5.715,-6.985) B2(-5.715,-5.715) B3(-5.715,-4.445) B4(-5.715,-3.175) B5(-5.715,-1.905) B6(-5.715,-0.635) B7(-5.715,0.635) B9(-5.715,3.175) B11(-5.715,5.715) B12(-5.715,6.985) C1(-4.445,-6.985) C2(-4.445,-5.715) C3(-4.445,-4.445) C4(-4.445,-3.175) C5(-4.445,-1.905) C6(-4.445,-0.635) C7(-4.445,0.635) C10(-4.445,4.445) C11(-4.445,5.715) C12(-4.445,6.985) D1(-3.175,-6.985) D2(-3.175,-5.715) D3(-3.175,-4.445) D4(-3.175,-3.175) D5(-3.175,-1.905) D6(-3.175,-0.635) D9(-3.175,3.175) D11(-3.175,5.715) D12(-3.175,6.985) E1(-1.905,-6.985) E2(-1.905,-5.715) E3(-1.905,-4.445) E4(-1.905,-3.175) E5(-1.905,-1.905) E6(-1.905,-0.635) E7(-1.905,0.635) E8(-1.905,1.905) E11(-1.905,5.715) E12(-1.905,6.985) F1(-0.635,-6.985) F2(-0.635,-5.715) F3(-0.635,-4.445) F4(-0.635,-3.175) F5(-0.635,-1.905) F6(-0.635,-0.635) F7(-0.635,0.635) F8(-0.635,1.905) F9(-0.635,3.175) F12(-0.635,6.985) G1(0.635,-6.985) G2(0.635,-5.715) G3(0.635,-4.445) G4(0.635,-3.175) G5(0.635,-1.905) G6(0.635,-0.635) G7(0.635,0.635) G8(0.635,1.905) G9(0.635,3.175) G10(0.635,4.445) G11(0.635,5.715) G12(0.635,6.985) H1(1.905,-6.985) H2(1.905,-5.715) H3(1.905,-4.445) H4(1.905,-3.175) H5(1.905,-1.905) H6(1.905,-0.635) H7(1.905,0.635) H8(1.905,1.905) H9(1.905,3.175) H10(1.905,4.445) H11(1.905,5.715) H12(1.905,6.985) J1(3.175,-6.985) J2(3.175,-5.715) J3(3.175,-4.445) J4(3.175,-3.175) J5(3.175,-1.905) J6(3.175,-0.635) J7(3.175,0.635) J8(3.175,1.905) J9(3.175,3.175) J10(3.175,4.445) J11(3.175,5.715) J12(3.175,6.985) K1(4.445,-6.985) K2(4.445,-5.715) K3(4.445,-4.445) K4(4.445,-3.175) K5(4.445,-1.905) K6(4.445,-0.635) K7(4.445,0.635) K8(4.445,1.905) K9(4.445,3.175) K10(4.445,4.445) K11(4.445,5.715) K12(4.445,6.985) L1(5.715,-6.985) L2(5.715,-5.715) L3(5.715,-4.445) L4(5.715,-3.175) L5(5.715,-1.905) L6(5.715,-0.635) L7(5.715,0.635) L8(5.715,1.905) L9(5.715,3.175) L10(5.715,4.445) L11(5.715,5.715) L12(5.715,6.985) M1(6.985,-6.985) M2(6.985,-5.715) M3(6.985,-4.445) M4(6.985,-3.175) M5(6.985,-1.905) M6(6.985,-0.635) M7(6.985,0.635) M8(6.985,1.905) M9(6.985,3.175) M10(6.985,4.445) M11(6.985,5.715) M12(6.985,6.985)
Top Overlay:
  lines w0.2: -7.5,-7.5 -6.4,-7.5 -6.4,-6.4 -7.5,-6.4 -7.5,-7.5 ; -7.5,-7.5 -7.5,7.5 7.5,7.5 7.5,-7.5 -7.5,-7.5
Mechanical 1:
  drawing of 532 lines, arcs and shapes, not listed
Mechanical 16:
  drawing of 532 lines, arcs and shapes, not listed

## LQFP-128_L14.0-W14.0-P0.40-LS16.0-BL-EP5.8 [mm]
pads (129):
  oval 0.25x1.5 smd: 1(-6.2,-7.6) 2(-5.799,-7.6) 3(-5.4,-7.6) 4(-5.001,-7.6) 5(-4.6,-7.6) 6(-4.201,-7.6) 7(-3.8,-7.6) 8(-3.401,-7.6) 9(-3,-7.6) 10(-2.601,-7.6) 11(-2.2,-7.6) 12(-1.801,-7.6) 13(-1.4,-7.6) 14(-1.001,-7.6) 15(-0.599,-7.6) 16(-0.201,-7.6) 17(0.201,-7.6) 18(0.599,-7.6) 19(1.001,-7.6) 20(1.4,-7.6) 21(1.801,-7.6) 22(2.2,-7.6) 23(2.601,-7.6) 24(3,-7.6) 25(3.401,-7.6) 26(3.8,-7.6) 27(4.201,-7.6) 28(4.6,-7.6) 29(5.001,-7.6) 30(5.4,-7.6) 31(5.799,-7.6) 32(6.2,-7.6) 65(6.2,7.6) 66(5.799,7.6) 67(5.4,7.6) 68(5.001,7.6) 69(4.6,7.6) 70(4.201,7.6) 71(3.8,7.6) 72(3.401,7.6) 73(3,7.6) 74(2.601,7.6) 75(2.2,7.6) 76(1.801,7.6) 77(1.4,7.6) 78(1.001,7.6) 79(0.599,7.6) 80(0.201,7.6) 81(-0.201,7.6) 82(-0.599,7.6) 83(-1.001,7.6) 84(-1.4,7.6) 85(-1.801,7.6) 86(-2.2,7.6) 87(-2.601,7.6) 88(-3,7.6) 89(-3.401,7.6) 90(-3.8,7.6) 91(-4.201,7.6) 92(-4.6,7.6) 93(-5.001,7.6) 94(-5.4,7.6) 95(-5.799,7.6) 96(-6.2,7.6)
  oval 1.5x0.25 smd: 33(7.6,-6.2) 34(7.6,-5.799) 35(7.6,-5.4) 36(7.6,-5.001) 37(7.6,-4.6) 38(7.6,-4.201) 39(7.6,-3.8) 40(7.6,-3.401) 41(7.6,-3) 42(7.6,-2.601) 43(7.6,-2.2) 44(7.6,-1.801) 45(7.6,-1.4) 46(7.6,-1.001) 47(7.6,-0.599) 48(7.6,-0.201) 49(7.6,0.201) 50(7.6,0.599) 51(7.6,1.001) 52(7.6,1.4) 53(7.6,1.801) 54(7.6,2.2) 55(7.6,2.601) 56(7.6,3) 57(7.6,3.401) 58(7.6,3.8) 59(7.6,4.201) 60(7.6,4.6) 61(7.6,5.001) 62(7.6,5.4) 63(7.6,5.799) 64(7.6,6.2) 97(-7.6,6.2) 98(-7.6,5.799) 99(-7.6,5.4) 100(-7.6,5.001) 101(-7.6,4.6) 102(-7.6,4.201) 103(-7.6,3.8) 104(-7.6,3.401) 105(-7.6,3) 106(-7.6,2.601) 107(-7.6,2.2) 108(-7.6,1.801) 109(-7.6,1.4) 110(-7.6,1.001) 111(-7.6,0.599) 112(-7.6,0.201) 113(-7.6,-0.201) 114(-7.6,-0.599) 115(-7.6,-1.001) 116(-7.6,-1.4) 117(-7.6,-1.801) 118(-7.6,-2.2) 119(-7.6,-2.601) 120(-7.6,-3) 121(-7.6,-3.401) 122(-7.6,-3.8) 123(-7.6,-4.201) 124(-7.6,-4.6) 125(-7.6,-5.001) 126(-7.6,-5.4) 127(-7.6,-5.799) 128(-7.6,-6.2)
  rect 5.8x5.8 smd: 129(0,0)
Top Overlay:
  lines w0.2: -6.25,-6.25 6.25,-6.25 6.25,6.25 -6.25,6.25 -6.25,-6.25
  lines w0.3: -6.85,-7.775 ccw(c-6.849,-7.925) -6.848,-7.775
  lines w0.6: -5.25,-4.95 ccw(c-5.248,-5.25) -5.245,-4.95

## LT1963ES8 [mil] "LT1963ES8"
pads (8):
  rect 70x30 smd: 1(-89.25,75) 2(-89.24,25) 3(-89.24,-25) 4(-89.24,-75.01) 5(119.42,-75) 6(119.42,-25) 7(119.42,24.99) 8(119.42,75)
Top Overlay:
  lines w7: -24.91,-98.43 -24.91,98.42 ; -154.91,54.99 -134.91,75 -154.92,94.99 -154.91,54.99 ; -38.93,-98.43 -38.93,98.42 69.29,98.42 69.29,-98.43 -38.93,-98.43
Mechanical 7:
  lines w1: -158.42,-101.93 158.42,-101.93 158.42,101.92 -158.42,101.92 -158.42,-101.93
Mechanical 16:
  text ".Designator" at 15.09,0 h30

## LTM4600 [mm] "LTM4600"
pads (104):
  rect 0.635x0.635 smd: A3(-5.716,6.989) A5(-4.446,6.989) A7(-3.176,6.989) A9(-1.906,6.989) A11(-0.636,6.989) A13(0.634,6.989) A15(1.904,6.989) A17(3.174,6.989) A19(4.444,6.989) A21(5.715,6.989) B1(-6.942,6.548) B23(6.987,6.548) C10(-1.27,5.765) C12(0,5.765) C14(1.27,5.765) D1(-6.942,5.278) D23(6.987,5.278) E10(-1.27,4.495) E12(0,4.495) E14(1.27,4.495) F1(-6.942,4.008) F23(6.987,4.008) G1(-6.942,2.738) G23(6.987,2.738) H7(-3.176,2.36) H9(-1.906,2.36) H11(-0.636,2.36) H13(0.634,2.36) H15(1.904,2.36) H17(3.174,2.36) J1(-6.942,1.468) J23(6.987,1.468) K7(-3.176,1.09) K9(-1.906,1.09) K11(-0.636,1.09) K13(0.634,1.09) K15(1.904,1.09) K17(3.174,1.09) L2(-6.35,0) L4(-5.08,0) L6(-3.81,0) L8(-2.54,0) L10(-1.27,0) L12(0,0) L14(1.27,0) L16(2.54,0) L18(3.81,0) L20(5.08,0) L22(6.35,0) M2(-6.35,-1.27) M4(-5.08,-1.27) M6(-3.81,-1.27) M8(-2.54,-1.27) M10(-1.27,-1.27) M12(0,-1.27) M14(1.27,-1.27) M16(2.54,-1.27) M18(3.81,-1.27) M20(5.08,-1.27) M22(6.35,-1.27) N2(-6.35,-2.54) N4(-5.08,-2.54) N6(-3.81,-2.54) N8(-2.54,-2.54) N10(-1.27,-2.54) N12(0,-2.54) N14(1.27,-2.54) N16(2.54,-2.54) N18(3.81,-2.54) N20(5.08,-2.54) N22(6.35,-2.54) P2(-6.35,-4.445) P4(-5.08,-4.445) P6(-3.81,-4.445) P8(-2.54,-4.445) P10(-1.27,-4.445) P12(0,-4.445) P14(1.27,-4.445) P16(2.54,-4.445) P18(3.81,-4.445) P20(5.08,-4.445) P22(6.35,-4.445) R2(-6.35,-5.715) R4(-5.08,-5.715) R6(-3.81,-5.715) R8(-2.54,-5.715) R10(-1.27,-5.715) R12(0,-5.715) R14(1.27,-5.715) R16(2.54,-5.715) R18(3.81,-5.715) R20(5.08,-5.715) R22(6.35,-5.715) T2(-6.35,-6.985) T4(-5.08,-6.985) T6(-3.81,-6.985) T8(-2.54,-6.985) T10(-1.27,-6.985) T12(0,-6.985) T14(1.27,-6.985) T16(2.54,-6.985) T18(3.81,-6.985) T20(5.08,-6.985) T22(6.35,-6.985)
Top Overlay:
  lines w0.254: -7.5,-7.5 -7.5,7.5 7.5,7.5 7.5,-7.5 -7.5,-7.5
  text ".Designator" at -2.129,-9.211 h0.76
Mechanical 7:
  lines w0.025: -7.627,-7.627 7.627,-7.627 7.627,7.627 -7.627,7.627 -7.627,-7.627